# Altium integrated library TI Power Management Battery Management.IntLib: 949 symbols (part 14 of 62)
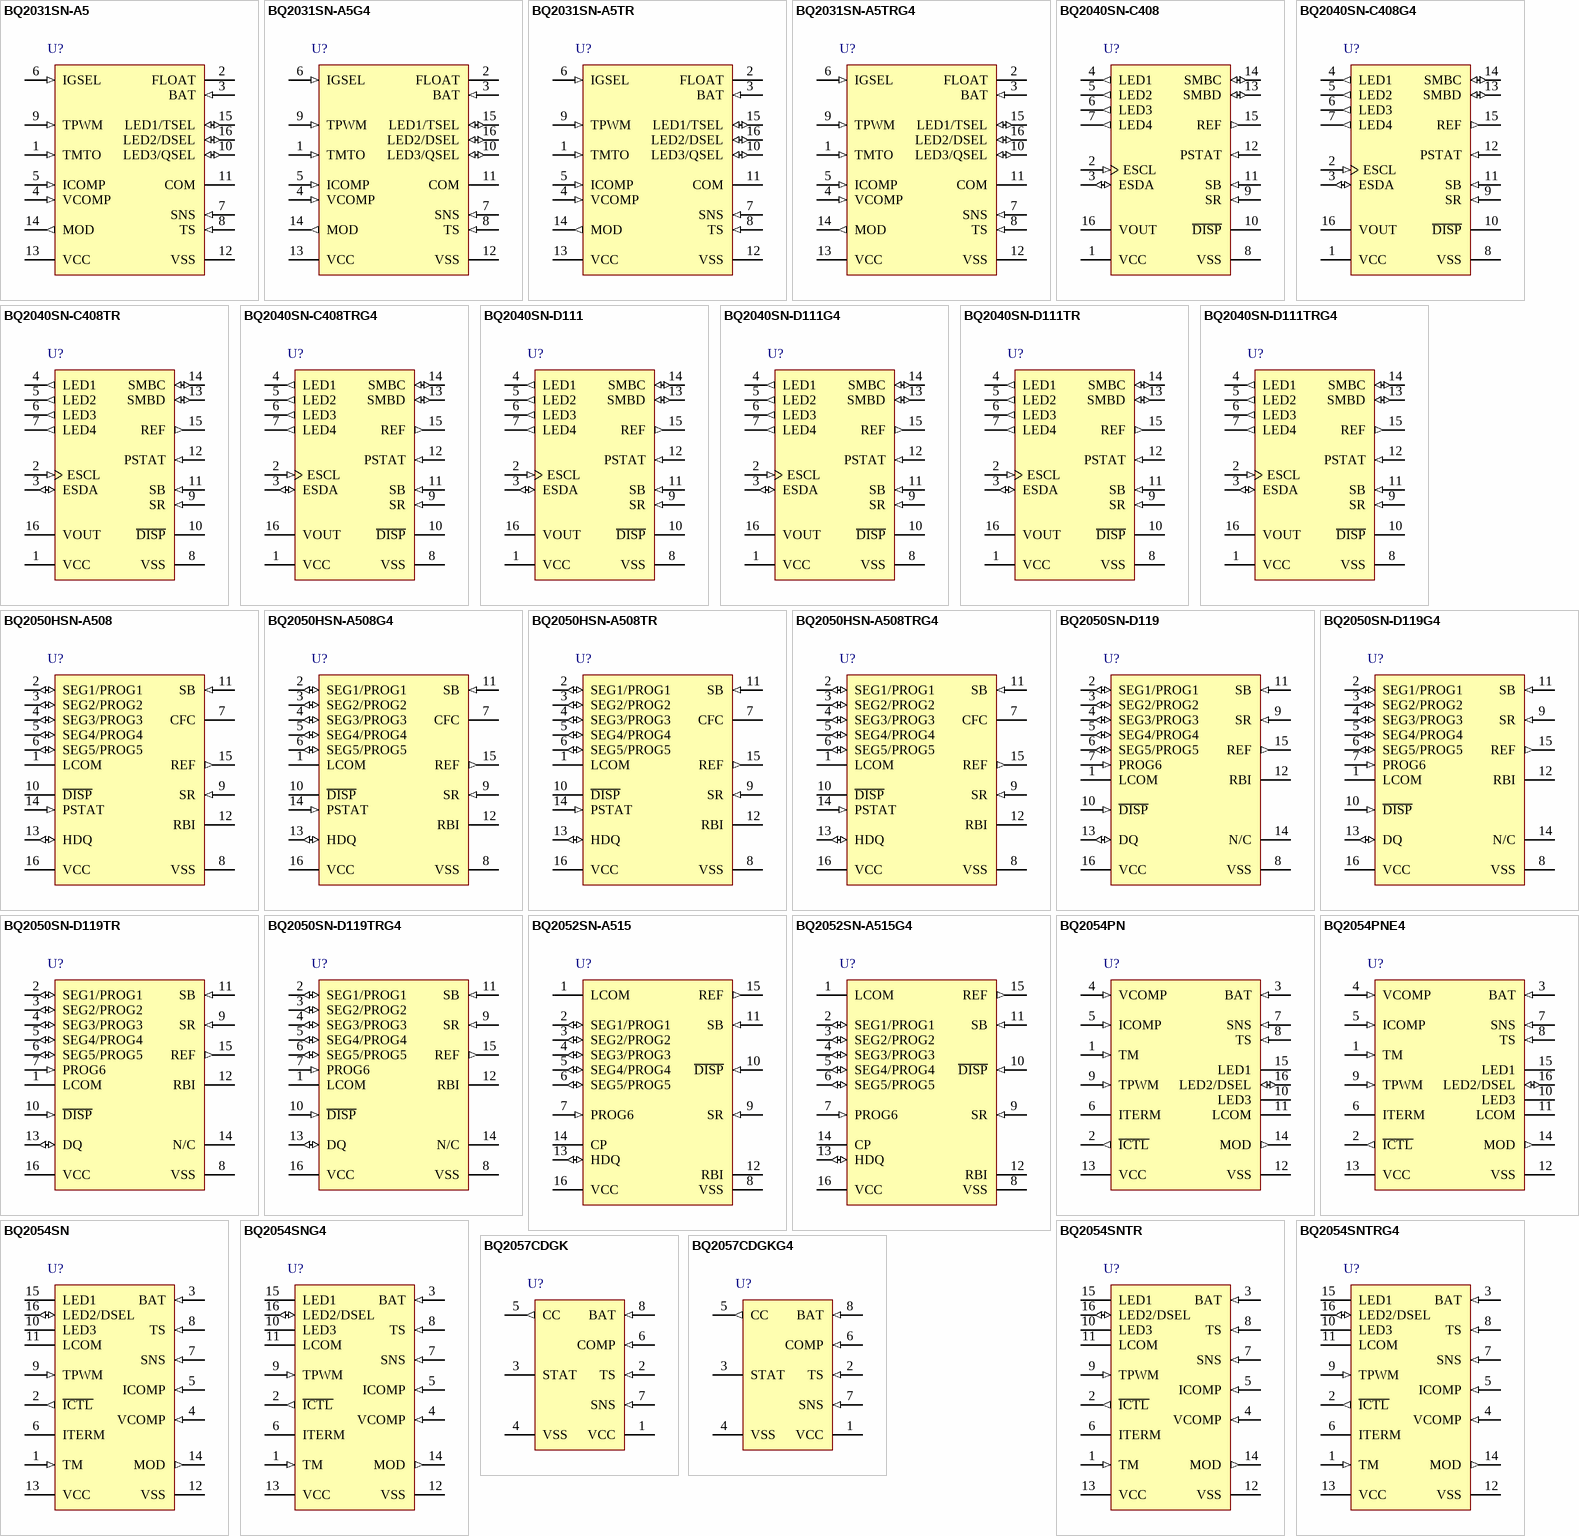
[diagram p47: symbols BQ2031SN-A5 to BQ2057CDGKG4]

## BQ2031SN-A5TR
designator U?
Switch-Mode Lead-Acid Battery Charger with User-Selectable Charge Algorithms, 4.5 V, -20 to 70 degC, 16-pin PDIP (N), Pb-Free (RoHS); PartNumber: BQ2031SN-A5TR; Manufacturer: Texas Instruments; Eco-Plan: Green (RoHS & no Sb/Br); Lead Acid: Y; SubFamily: Battery Charge Management; Vin(Min)(V): 4.5; DatasheetVersion: SLUS156; PackageVersion: revM, Jun-2011; PackageReference: D16; PackageDescription: 16-Pin Plastic Small Outline Integrated Circuit, 9.9 x 3.9 mm, Pitch 1.27 mm Pitch; Supplier 1: Digi-Key; Supplier Part Number 1: 296-30430-2-ND; Supplier 2: Digi-Key; Supplier Part Number 2: 296-30430-1-ND; Supplier 3: Newark; Supplier Part Number 3: 74C7570; Supplier 4: Mouser; Supplier Part Number 4: 595-BQ2031SN-A5TR; Li-Ion: N; Li-Polymer: N; NiCd: N; NiMH: N; Over Voltage Protection: N; Mounting Technology: Surface Mount; Code_JEDEC: MS-012AC; ComponentLink1Description: Datasheet; ComponentLink1URL: http://www.ti.com/general/docs/lit/getliterature.tsp?genericPartNumber=BQ2031&fileType=pdf
footprint D16_N (SOIC, 16-Leads, Body 9.9x3.9mm, Pitch 1.27mm, IPC Medium Density)
footprint D16_L (SOIC, 16-Leads, Body 9.9x3.9mm, Pitch 1.27mm, IPC High Density)
footprint D16_M (SOIC, 16-Leads, Body 9.9x3.9mm, Pitch 1.27mm, IPC Low Density)
pins: 1 TMTO (in) "This input sets the maximum charge time.The resistor and capacitor values are determined using equation 6. Figure 9 shows the resistor/capacitor connection.", 2 FLOAT (oc) "This open-drain output uses an external resistor divider network to control the BAT input voltage threshold (VFLT) for the float charge regulation. See Figure 1.", 3 BAT (in) "BAT is the battery voltage sense input. This potential is generally developed using a highimpedance resistor divider network connected between the positive and the negative terminals of the battery. See Figure 6 and equation (See Datasheet)", 4 VCOMP (in) "This input uses an external C or R-C network for voltage loop stability.", 5 ICOMP (in) "This input uses an external C or R-C network for current loop stability.", 6 IGSEL (in) "This three-state input is used to set IMIN for fast charge termination in the Two-Step Voltage algorithm and for maintenance current regulation in the Two-Step Current algorithm.See Tables 3 and 4.", 7 SNS (in) "Battery current is sensed via the voltage developed on this pin by an external sense resistor,RSNS, connected in series with the low side of the battery. See equation 8.", 8 TS (in) "This input is for an external battery temperature monitoring thermistor or probe. An external resistor divider network sets the lower and upper temperature thresholds.See Figures 7 and 8 and equations 4 and 5.", 9 TPWM (in) "This input uses an external timing capacitor to ground the pulse-width modulation (PWM) frequency. See equation 9.", 10 LED3/QSEL (io) "These charger status output drivers are for the direct drive of the LED display. Display modes are shown in Table 2. These outputs are tri-stated during initialization so that QSEL,TSEL, and DSEL can be read./With QSEL, (See Datasheet)", 11 COM (hiz) "Common output for LED1-3. This output is in a high-impedance state during initialization to read program inputs on TSEL,QSEL, and DSEL.", 12 VSS (power) "Ground", 13 VCC (power) "5.0V, +/- 10% power", 14 MOD (out) "MOD is a pulse-width modulated push/pull output that is used to control the charging current to the battery. MOD switches high to enable current flow and low to inhibit current flow.", 15 LED1/TSEL (io) "These charger status output drivers are for the direct drive of the LED display. Display modes are shown in Table 2. These outputs are tri-stated during initialization so that QSEL,TSEL, and DSEL can be read./With TSEL, (See Datasheet)", 16 LED2/DSEL (io) "These charger status output drivers are for the direct drive of the LED display. Display modes are shown in Table 2. These outputs are tri-stated during initialization so that QSEL,TSEL, and DSEL can be read./This (See Datasheet)"

## BQ2031SN-A5TRG4
designator U?
Switch-Mode Lead-Acid Battery Charger with User-Selectable Charge Algorithms, 4.5 V, -20 to 70 degC, 16-pin PDIP (N), Pb-Free (RoHS); PartNumber: BQ2031SN-A5TRG4; Manufacturer: Texas Instruments; Eco-Plan: Green (RoHS & no Sb/Br); Lead Acid: Y; SubFamily: Battery Charge Management; Vin(Min)(V): 4.5; DatasheetVersion: SLUS156; PackageVersion: revM, Jun-2011; PackageReference: D16; PackageDescription: 16-Pin Plastic Small Outline Integrated Circuit, 9.9 x 3.9 mm, Pitch 1.27 mm Pitch; Supplier 1: Digi-Key; Supplier Part Number 1: BQ2031SN-A5TRG4-ND; Supplier 2: Newark; Supplier Part Number 2: 53K9219; Supplier 3: Mouser; Supplier Part Number 3: 595-BQ2031SN-A5TRG4; Li-Ion: N; Li-Polymer: N; NiCd: N; NiMH: N; Over Voltage Protection: N; Mounting Technology: Surface Mount; Code_JEDEC: MS-012AC; ComponentLink1Description: Datasheet; ComponentLink1URL: http://www.ti.com/general/docs/lit/getliterature.tsp?genericPartNumber=BQ2031&fileType=pdf
footprint D16_N (SOIC, 16-Leads, Body 9.9x3.9mm, Pitch 1.27mm, IPC Medium Density)
footprint D16_L (SOIC, 16-Leads, Body 9.9x3.9mm, Pitch 1.27mm, IPC High Density)
footprint D16_M (SOIC, 16-Leads, Body 9.9x3.9mm, Pitch 1.27mm, IPC Low Density)
pins: 1 TMTO (in) "This input sets the maximum charge time.The resistor and capacitor values are determined using equation 6. Figure 9 shows the resistor/capacitor connection.", 2 FLOAT (oc) "This open-drain output uses an external resistor divider network to control the BAT input voltage threshold (VFLT) for the float charge regulation. See Figure 1.", 3 BAT (in) "BAT is the battery voltage sense input. This potential is generally developed using a highimpedance resistor divider network connected between the positive and the negative terminals of the battery. See Figure 6 and equation (See Datasheet)", 4 VCOMP (in) "This input uses an external C or R-C network for voltage loop stability.", 5 ICOMP (in) "This input uses an external C or R-C network for current loop stability.", 6 IGSEL (in) "This three-state input is used to set IMIN for fast charge termination in the Two-Step Voltage algorithm and for maintenance current regulation in the Two-Step Current algorithm.See Tables 3 and 4.", 7 SNS (in) "Battery current is sensed via the voltage developed on this pin by an external sense resistor,RSNS, connected in series with the low side of the battery. See equation 8.", 8 TS (in) "This input is for an external battery temperature monitoring thermistor or probe. An external resistor divider network sets the lower and upper temperature thresholds.See Figures 7 and 8 and equations 4 and 5.", 9 TPWM (in) "This input uses an external timing capacitor to ground the pulse-width modulation (PWM) frequency. See equation 9.", 10 LED3/QSEL (io) "These charger status output drivers are for the direct drive of the LED display. Display modes are shown in Table 2. These outputs are tri-stated during initialization so that QSEL,TSEL, and DSEL can be read./With QSEL, (See Datasheet)", 11 COM (hiz) "Common output for LED1-3. This output is in a high-impedance state during initialization to read program inputs on TSEL,QSEL, and DSEL.", 12 VSS (power) "Ground", 13 VCC (power) "5.0V, +/- 10% power", 14 MOD (out) "MOD is a pulse-width modulated push/pull output that is used to control the charging current to the battery. MOD switches high to enable current flow and low to inhibit current flow.", 15 LED1/TSEL (io) "These charger status output drivers are for the direct drive of the LED display. Display modes are shown in Table 2. These outputs are tri-stated during initialization so that QSEL,TSEL, and DSEL can be read./With TSEL, (See Datasheet)", 16 LED2/DSEL (io) "These charger status output drivers are for the direct drive of the LED display. Display modes are shown in Table 2. These outputs are tri-stated during initialization so that QSEL,TSEL, and DSEL can be read./This (See Datasheet)"

## BQ2040SN-C408
designator U?
Multi-Chemistry Smart Battery System (SBS) 1.0 Compliant Gas Gauge with 4 LED Drivers, 0 to 70 degC, 16-pin SOIC (D), Green (RoHS & no Sb/Br); PartNumber: BQ2040SN-C408; Manufacturer: Texas Instruments; Lead Acid: Y; Li-Polymer: N; SubFamily: Battery Fuel Gauge; DatasheetVersion: SLUS005; PackageVersion: revM, Jun-2011; PackageReference: D16; PackageDescription: 16-Pin Plastic Small Outline Integrated Circuit, 9.9 x 3.9 mm, Pitch 1.27 mm Pitch; Supplier 1: Digi-Key; Supplier Part Number 1: 296-2223-5-ND; Supplier 2: Newark; Supplier Part Number 2: 74K3706; Supplier 3: Mouser; Supplier Part Number 3: 595-BQ2040SN-C408; Eco-Plan: Green (RoHS & no Sb/Br); Li-Ion: Y; NiCd: Y; NiMH: Y; Over Voltage Protection: N; Mounting Technology: Surface Mount; Code_JEDEC: MS-012AC; ComponentLink1Description: Datasheet; ComponentLink1URL: http://www.ti.com/general/docs/lit/getliterature.tsp?genericPartNumber=BQ2040&fileType=pdf
footprint D16_N (SOIC, 16-Leads, Body 9.9x3.9mm, Pitch 1.27mm, IPC Medium Density)
footprint D16_L (SOIC, 16-Leads, Body 9.9x3.9mm, Pitch 1.27mm, IPC High Density)
footprint D16_M (SOIC, 16-Leads, Body 9.9x3.9mm, Pitch 1.27mm, IPC Low Density)
pins: 1 VCC (power) "Supply voltage input", 2 ESCL (in) "Output used to clock the data transfer between the bq2040 and the external nonvolatile configuration memory.", 3 ESDA (io) "Bidirectional pin used to transfer address and data to and from the bq2040 and the external nonvolitile configuration memory.", 4 LED1 (out) "Each output may drive an external LED.", 5 LED2 (out) "Each output may drive an external LED.", 6 LED3 (out) "Each output may drive an external LED.", 7 LED4 (out) "Each output may drive an external LED.", 8 VSS (power) "Ground", 9 SR (in) "The voltage drop (VSR) across pins SR and VSS is monitored and integrated over time to interpret charge and discharge activity.The SR input is connected to the sense resistor and the negative terminal of the battery. VSR < (See Datasheet)", 10 ~{DISP} "D\I\S\P\ high disables the LED display.D\I\S\P\ floating allows the LED display to be active during charge if the rate is greater than 100mA.D\I\S\P\ low activates the display for 4 seconds.", 11 SB (in) "Monitors the pack voltage through a highimpedance resistor divider network. The pack voltage is reported in the SBD register function Voltage (0x09) and is monitored for end-of-discharge voltage and charging voltage (See Datasheet)", 12 PSTAT (in) "Provides overvoltage status from the Li-Ion protector circuit and can initiate a charge suspend request.", 13 SMBD (io) "Open-drain bidirectional pin used to transfer address and data to and from the bq2040.", 14 SMBC (io) "Open-drain bidirectional pin used to clock the data transfer to and from the bq2040.", 15 REF (out) "REF provides a reference output for an optional FET-based micro-regulator.", 16 VOUT (power) "Supplies power to the external EEPROM configuration memory."

## BQ2040SN-C408G4
designator U?
Multi-Chemistry Smart Battery System (SBS) 1.0 Compliant Gas Gauge with 4 LED Drivers, 0 to 70 degC, 16-pin SOIC (D), Green (RoHS & no Sb/Br); PartNumber: BQ2040SN-C408G4; Manufacturer: Texas Instruments; Lead Acid: Y; Li-Polymer: N; SubFamily: Battery Fuel Gauge; DatasheetVersion: SLUS005; PackageVersion: revM, Jun-2011; PackageReference: D16; PackageDescription: 16-Pin Plastic Small Outline Integrated Circuit, 9.9 x 3.9 mm, Pitch 1.27 mm Pitch; Supplier 1: Digi-Key; Supplier Part Number 1: BQ2040SN-C408G4-ND; Supplier 2: Newark; Supplier Part Number 2: 21M9442; Supplier 3: Mouser; Supplier Part Number 3: 595-BQ2040SN-C408G4; Eco-Plan: Green (RoHS & no Sb/Br); Li-Ion: Y; NiCd: Y; NiMH: Y; Over Voltage Protection: N; Mounting Technology: Surface Mount; Code_JEDEC: MS-012AC; ComponentLink1Description: Datasheet; ComponentLink1URL: http://www.ti.com/general/docs/lit/getliterature.tsp?genericPartNumber=BQ2040&fileType=pdf
footprint D16_N (SOIC, 16-Leads, Body 9.9x3.9mm, Pitch 1.27mm, IPC Medium Density)
footprint D16_L (SOIC, 16-Leads, Body 9.9x3.9mm, Pitch 1.27mm, IPC High Density)
footprint D16_M (SOIC, 16-Leads, Body 9.9x3.9mm, Pitch 1.27mm, IPC Low Density)
pins: 1 VCC (power) "Supply voltage input", 2 ESCL (in) "Output used to clock the data transfer between the bq2040 and the external nonvolatile configuration memory.", 3 ESDA (io) "Bidirectional pin used to transfer address and data to and from the bq2040 and the external nonvolitile configuration memory.", 4 LED1 (out) "Each output may drive an external LED.", 5 LED2 (out) "Each output may drive an external LED.", 6 LED3 (out) "Each output may drive an external LED.", 7 LED4 (out) "Each output may drive an external LED.", 8 VSS (power) "Ground", 9 SR (in) "The voltage drop (VSR) across pins SR and VSS is monitored and integrated over time to interpret charge and discharge activity.The SR input is connected to the sense resistor and the negative terminal of the battery. VSR < (See Datasheet)", 10 ~{DISP} "D\I\S\P\ high disables the LED display.D\I\S\P\ floating allows the LED display to be active during charge if the rate is greater than 100mA.D\I\S\P\ low activates the display for 4 seconds.", 11 SB (in) "Monitors the pack voltage through a highimpedance resistor divider network. The pack voltage is reported in the SBD register function Voltage (0x09) and is monitored for end-of-discharge voltage and charging voltage (See Datasheet)", 12 PSTAT (in) "Provides overvoltage status from the Li-Ion protector circuit and can initiate a charge suspend request.", 13 SMBD (io) "Open-drain bidirectional pin used to transfer address and data to and from the bq2040.", 14 SMBC (io) "Open-drain bidirectional pin used to clock the data transfer to and from the bq2040.", 15 REF (out) "REF provides a reference output for an optional FET-based micro-regulator.", 16 VOUT (power) "Supplies power to the external EEPROM configuration memory."

## BQ2040SN-C408TR
designator U?
Multi-Chemistry Smart Battery System (SBS) 1.0 Compliant Gas Gauge with 4 LED Drivers, 0 to 70 degC, 16-pin SOIC (D), Green (RoHS & no Sb/Br); PartNumber: BQ2040SN-C408TR; Manufacturer: Texas Instruments; Lead Acid: Y; Li-Polymer: N; SubFamily: Battery Fuel Gauge; DatasheetVersion: SLUS005; PackageVersion: revM, Jun-2011; PackageReference: D16; PackageDescription: 16-Pin Plastic Small Outline Integrated Circuit, 9.9 x 3.9 mm, Pitch 1.27 mm Pitch; Supplier 1: Digi-Key; Supplier Part Number 1: BQ2040SN-C408TR-ND; Supplier 2: Mouser; Supplier Part Number 2: 595-BQ2040SN-C408TR; Eco-Plan: Green (RoHS & no Sb/Br); Li-Ion: Y; NiCd: Y; NiMH: Y; Over Voltage Protection: N; Mounting Technology: Surface Mount; Code_JEDEC: MS-012AC; ComponentLink1Description: Datasheet; ComponentLink1URL: http://www.ti.com/general/docs/lit/getliterature.tsp?genericPartNumber=BQ2040&fileType=pdf
footprint D16_N (SOIC, 16-Leads, Body 9.9x3.9mm, Pitch 1.27mm, IPC Medium Density)
footprint D16_L (SOIC, 16-Leads, Body 9.9x3.9mm, Pitch 1.27mm, IPC High Density)
footprint D16_M (SOIC, 16-Leads, Body 9.9x3.9mm, Pitch 1.27mm, IPC Low Density)
pins: 1 VCC (power) "Supply voltage input", 2 ESCL (in) "Output used to clock the data transfer between the bq2040 and the external nonvolatile configuration memory.", 3 ESDA (io) "Bidirectional pin used to transfer address and data to and from the bq2040 and the external nonvolitile configuration memory.", 4 LED1 (out) "Each output may drive an external LED.", 5 LED2 (out) "Each output may drive an external LED.", 6 LED3 (out) "Each output may drive an external LED.", 7 LED4 (out) "Each output may drive an external LED.", 8 VSS (power) "Ground", 9 SR (in) "The voltage drop (VSR) across pins SR and VSS is monitored and integrated over time to interpret charge and discharge activity.The SR input is connected to the sense resistor and the negative terminal of the battery. VSR < (See Datasheet)", 10 ~{DISP} "D\I\S\P\ high disables the LED display.D\I\S\P\ floating allows the LED display to be active during charge if the rate is greater than 100mA.D\I\S\P\ low activates the display for 4 seconds.", 11 SB (in) "Monitors the pack voltage through a highimpedance resistor divider network. The pack voltage is reported in the SBD register function Voltage (0x09) and is monitored for end-of-discharge voltage and charging voltage (See Datasheet)", 12 PSTAT (in) "Provides overvoltage status from the Li-Ion protector circuit and can initiate a charge suspend request.", 13 SMBD (io) "Open-drain bidirectional pin used to transfer address and data to and from the bq2040.", 14 SMBC (io) "Open-drain bidirectional pin used to clock the data transfer to and from the bq2040.", 15 REF (out) "REF provides a reference output for an optional FET-based micro-regulator.", 16 VOUT (power) "Supplies power to the external EEPROM configuration memory."

## BQ2040SN-C408TRG4
designator U?
Multi-Chemistry Smart Battery System (SBS) 1.0 Compliant Gas Gauge with 4 LED Drivers, 0 to 70 degC, 16-pin SOIC (D), Green (RoHS & no Sb/Br); PartNumber: BQ2040SN-C408TRG4; Manufacturer: Texas Instruments; Lead Acid: Y; Li-Polymer: N; SubFamily: Battery Fuel Gauge; DatasheetVersion: SLUS005; PackageVersion: revM, Jun-2011; PackageReference: D16; PackageDescription: 16-Pin Plastic Small Outline Integrated Circuit, 9.9 x 3.9 mm, Pitch 1.27 mm Pitch; Supplier 1: Digi-Key; Supplier Part Number 1: BQ2040SN-C408TRG4-ND; Supplier 2: Newark; Supplier Part Number 2: 21M9443; Supplier 3: Mouser; Supplier Part Number 3: 595-BQ2040SN408TRG4; Eco-Plan: Green (RoHS & no Sb/Br); Li-Ion: Y; NiCd: Y; NiMH: Y; Over Voltage Protection: N; Mounting Technology: Surface Mount; Code_JEDEC: MS-012AC; ComponentLink1Description: Datasheet; ComponentLink1URL: http://www.ti.com/general/docs/lit/getliterature.tsp?genericPartNumber=BQ2040&fileType=pdf
footprint D16_N (SOIC, 16-Leads, Body 9.9x3.9mm, Pitch 1.27mm, IPC Medium Density)
footprint D16_L (SOIC, 16-Leads, Body 9.9x3.9mm, Pitch 1.27mm, IPC High Density)
footprint D16_M (SOIC, 16-Leads, Body 9.9x3.9mm, Pitch 1.27mm, IPC Low Density)
pins: 1 VCC (power) "Supply voltage input", 2 ESCL (in) "Output used to clock the data transfer between the bq2040 and the external nonvolatile configuration memory.", 3 ESDA (io) "Bidirectional pin used to transfer address and data to and from the bq2040 and the external nonvolitile configuration memory.", 4 LED1 (out) "Each output may drive an external LED.", 5 LED2 (out) "Each output may drive an external LED.", 6 LED3 (out) "Each output may drive an external LED.", 7 LED4 (out) "Each output may drive an external LED.", 8 VSS (power) "Ground", 9 SR (in) "The voltage drop (VSR) across pins SR and VSS is monitored and integrated over time to interpret charge and discharge activity.The SR input is connected to the sense resistor and the negative terminal of the battery. VSR < (See Datasheet)", 10 ~{DISP} "D\I\S\P\ high disables the LED display.D\I\S\P\ floating allows the LED display to be active during charge if the rate is greater than 100mA.D\I\S\P\ low activates the display for 4 seconds.", 11 SB (in) "Monitors the pack voltage through a highimpedance resistor divider network. The pack voltage is reported in the SBD register function Voltage (0x09) and is monitored for end-of-discharge voltage and charging voltage (See Datasheet)", 12 PSTAT (in) "Provides overvoltage status from the Li-Ion protector circuit and can initiate a charge suspend request.", 13 SMBD (io) "Open-drain bidirectional pin used to transfer address and data to and from the bq2040.", 14 SMBC (io) "Open-drain bidirectional pin used to clock the data transfer to and from the bq2040.", 15 REF (out) "REF provides a reference output for an optional FET-based micro-regulator.", 16 VOUT (power) "Supplies power to the external EEPROM configuration memory."

## BQ2040SN-D111
designator U?
Multi-Chemistry Smart Battery System (SBS) 1.0 Compliant Gas Gauge with 4 LED Drivers, 0 to 70 degC, 16-pin SOIC (D), Green (RoHS & no Sb/Br); PartNumber: BQ2040SN-D111; Manufacturer: Texas Instruments; Lead Acid: Y; Li-Polymer: N; SubFamily: Battery Fuel Gauge; DatasheetVersion: SLUS005; PackageVersion: revM, Jun-2011; PackageReference: D16; PackageDescription: 16-Pin Plastic Small Outline Integrated Circuit, 9.9 x 3.9 mm, Pitch 1.27 mm Pitch; Supplier 1: Digi-Key; Supplier Part Number 1: 296-13773-5-ND; Supplier 2: Newark; Supplier Part Number 2: 88K1041; Supplier 3: Mouser; Supplier Part Number 3: 595-BQ2040-D111; Eco-Plan: Green (RoHS & no Sb/Br); Li-Ion: Y; NiCd: Y; NiMH: Y; Over Voltage Protection: N; Mounting Technology: Surface Mount; Code_JEDEC: MS-012AC; ComponentLink1Description: Datasheet; ComponentLink1URL: http://www.ti.com/general/docs/lit/getliterature.tsp?genericPartNumber=BQ2040&fileType=pdf
footprint D16_N (SOIC, 16-Leads, Body 9.9x3.9mm, Pitch 1.27mm, IPC Medium Density)
footprint D16_L (SOIC, 16-Leads, Body 9.9x3.9mm, Pitch 1.27mm, IPC High Density)
footprint D16_M (SOIC, 16-Leads, Body 9.9x3.9mm, Pitch 1.27mm, IPC Low Density)
pins: 1 VCC (power) "Supply voltage input", 2 ESCL (in) "Output used to clock the data transfer between the bq2040 and the external nonvolatile configuration memory.", 3 ESDA (io) "Bidirectional pin used to transfer address and data to and from the bq2040 and the external nonvolitile configuration memory.", 4 LED1 (out) "Each output may drive an external LED.", 5 LED2 (out) "Each output may drive an external LED.", 6 LED3 (out) "Each output may drive an external LED.", 7 LED4 (out) "Each output may drive an external LED.", 8 VSS (power) "Ground", 9 SR (in) "The voltage drop (VSR) across pins SR and VSS is monitored and integrated over time to interpret charge and discharge activity.The SR input is connected to the sense resistor and the negative terminal of the battery. VSR < (See Datasheet)", 10 ~{DISP} "D\I\S\P\ high disables the LED display.D\I\S\P\ floating allows the LED display to be active during charge if the rate is greater than 100mA.D\I\S\P\ low activates the display for 4 seconds.", 11 SB (in) "Monitors the pack voltage through a highimpedance resistor divider network. The pack voltage is reported in the SBD register function Voltage (0x09) and is monitored for end-of-discharge voltage and charging voltage (See Datasheet)", 12 PSTAT (in) "Provides overvoltage status from the Li-Ion protector circuit and can initiate a charge suspend request.", 13 SMBD (io) "Open-drain bidirectional pin used to transfer address and data to and from the bq2040.", 14 SMBC (io) "Open-drain bidirectional pin used to clock the data transfer to and from the bq2040.", 15 REF (out) "REF provides a reference output for an optional FET-based micro-regulator.", 16 VOUT (power) "Supplies power to the external EEPROM configuration memory."

## BQ2040SN-D111G4
designator U?
Multi-Chemistry Smart Battery System (SBS) 1.0 Compliant Gas Gauge with 4 LED Drivers, 0 to 70 degC, 16-pin SOIC (D), Green (RoHS & no Sb/Br); PartNumber: BQ2040SN-D111G4; Manufacturer: Texas Instruments; Lead Acid: Y; Li-Polymer: N; SubFamily: Battery Fuel Gauge; DatasheetVersion: SLUS005; PackageVersion: revM, Jun-2011; PackageReference: D16; PackageDescription: 16-Pin Plastic Small Outline Integrated Circuit, 9.9 x 3.9 mm, Pitch 1.27 mm Pitch; Supplier 1: Digi-Key; Supplier Part Number 1: BQ2040SN-D111G4-ND; Supplier 2: Newark; Supplier Part Number 2: 21M9444; Supplier 3: Mouser; Supplier Part Number 3: 595-BQ2040SN-D111G4; Eco-Plan: Green (RoHS & no Sb/Br); Li-Ion: Y; NiCd: Y; NiMH: Y; Over Voltage Protection: N; Mounting Technology: Surface Mount; Code_JEDEC: MS-012AC; ComponentLink1Description: Datasheet; ComponentLink1URL: http://www.ti.com/general/docs/lit/getliterature.tsp?genericPartNumber=BQ2040&fileType=pdf
footprint D16_N (SOIC, 16-Leads, Body 9.9x3.9mm, Pitch 1.27mm, IPC Medium Density)
footprint D16_L (SOIC, 16-Leads, Body 9.9x3.9mm, Pitch 1.27mm, IPC High Density)
footprint D16_M (SOIC, 16-Leads, Body 9.9x3.9mm, Pitch 1.27mm, IPC Low Density)
pins: 1 VCC (power) "Supply voltage input", 2 ESCL (in) "Output used to clock the data transfer between the bq2040 and the external nonvolatile configuration memory.", 3 ESDA (io) "Bidirectional pin used to transfer address and data to and from the bq2040 and the external nonvolitile configuration memory.", 4 LED1 (out) "Each output may drive an external LED.", 5 LED2 (out) "Each output may drive an external LED.", 6 LED3 (out) "Each output may drive an external LED.", 7 LED4 (out) "Each output may drive an external LED.", 8 VSS (power) "Ground", 9 SR (in) "The voltage drop (VSR) across pins SR and VSS is monitored and integrated over time to interpret charge and discharge activity.The SR input is connected to the sense resistor and the negative terminal of the battery. VSR < (See Datasheet)", 10 ~{DISP} "D\I\S\P\ high disables the LED display.D\I\S\P\ floating allows the LED display to be active during charge if the rate is greater than 100mA.D\I\S\P\ low activates the display for 4 seconds.", 11 SB (in) "Monitors the pack voltage through a highimpedance resistor divider network. The pack voltage is reported in the SBD register function Voltage (0x09) and is monitored for end-of-discharge voltage and charging voltage (See Datasheet)", 12 PSTAT (in) "Provides overvoltage status from the Li-Ion protector circuit and can initiate a charge suspend request.", 13 SMBD (io) "Open-drain bidirectional pin used to transfer address and data to and from the bq2040.", 14 SMBC (io) "Open-drain bidirectional pin used to clock the data transfer to and from the bq2040.", 15 REF (out) "REF provides a reference output for an optional FET-based micro-regulator.", 16 VOUT (power) "Supplies power to the external EEPROM configuration memory."

## BQ2040SN-D111TR
designator U?
Multi-Chemistry Smart Battery System (SBS) 1.0 Compliant Gas Gauge with 4 LED Drivers, 0 to 70 degC, 16-pin SOIC (D), Green (RoHS & no Sb/Br); PartNumber: BQ2040SN-D111TR; Manufacturer: Texas Instruments; Lead Acid: Y; Li-Polymer: N; SubFamily: Battery Fuel Gauge; DatasheetVersion: SLUS005; PackageVersion: revM, Jun-2011; PackageReference: D16; PackageDescription: 16-Pin Plastic Small Outline Integrated Circuit, 9.9 x 3.9 mm, Pitch 1.27 mm Pitch; Supplier 1: Digi-Key; Supplier Part Number 1: BQ2040SN-D111TR-ND; Supplier 2: Newark; Supplier Part Number 2: 74C7574; Supplier 3: Mouser; Supplier Part Number 3: 595-BQ2040SN-D111TR; Eco-Plan: Green (RoHS & no Sb/Br); Li-Ion: Y; NiCd: Y; NiMH: Y; Over Voltage Protection: N; Mounting Technology: Surface Mount; Code_JEDEC: MS-012AC; ComponentLink1Description: Datasheet; ComponentLink1URL: http://www.ti.com/general/docs/lit/getliterature.tsp?genericPartNumber=BQ2040&fileType=pdf
footprint D16_N (SOIC, 16-Leads, Body 9.9x3.9mm, Pitch 1.27mm, IPC Medium Density)
footprint D16_L (SOIC, 16-Leads, Body 9.9x3.9mm, Pitch 1.27mm, IPC High Density)
footprint D16_M (SOIC, 16-Leads, Body 9.9x3.9mm, Pitch 1.27mm, IPC Low Density)
pins: 1 VCC (power) "Supply voltage input", 2 ESCL (in) "Output used to clock the data transfer between the bq2040 and the external nonvolatile configuration memory.", 3 ESDA (io) "Bidirectional pin used to transfer address and data to and from the bq2040 and the external nonvolitile configuration memory.", 4 LED1 (out) "Each output may drive an external LED.", 5 LED2 (out) "Each output may drive an external LED.", 6 LED3 (out) "Each output may drive an external LED.", 7 LED4 (out) "Each output may drive an external LED.", 8 VSS (power) "Ground", 9 SR (in) "The voltage drop (VSR) across pins SR and VSS is monitored and integrated over time to interpret charge and discharge activity.The SR input is connected to the sense resistor and the negative terminal of the battery. VSR < (See Datasheet)", 10 ~{DISP} "D\I\S\P\ high disables the LED display.D\I\S\P\ floating allows the LED display to be active during charge if the rate is greater than 100mA.D\I\S\P\ low activates the display for 4 seconds.", 11 SB (in) "Monitors the pack voltage through a highimpedance resistor divider network. The pack voltage is reported in the SBD register function Voltage (0x09) and is monitored for end-of-discharge voltage and charging voltage (See Datasheet)", 12 PSTAT (in) "Provides overvoltage status from the Li-Ion protector circuit and can initiate a charge suspend request.", 13 SMBD (io) "Open-drain bidirectional pin used to transfer address and data to and from the bq2040.", 14 SMBC (io) "Open-drain bidirectional pin used to clock the data transfer to and from the bq2040.", 15 REF (out) "REF provides a reference output for an optional FET-based micro-regulator.", 16 VOUT (power) "Supplies power to the external EEPROM configuration memory."

## BQ2040SN-D111TRG4
designator U?
Multi-Chemistry Smart Battery System (SBS) 1.0 Compliant Gas Gauge with 4 LED Drivers, 0 to 70 degC, 16-pin SOIC (D), Green (RoHS & no Sb/Br); PartNumber: BQ2040SN-D111TRG4; Manufacturer: Texas Instruments; Lead Acid: Y; Li-Polymer: N; SubFamily: Battery Fuel Gauge; DatasheetVersion: SLUS005; PackageVersion: revM, Jun-2011; PackageReference: D16; PackageDescription: 16-Pin Plastic Small Outline Integrated Circuit, 9.9 x 3.9 mm, Pitch 1.27 mm Pitch; Supplier 1: Digi-Key; Supplier Part Number 1: BQ2040SN-D111TRG4-ND; Supplier 2: Newark; Supplier Part Number 2: 24K4376; Supplier 3: Mouser; Supplier Part Number 3: 595-BQ2040SND111TRG4; Eco-Plan: Green (RoHS & no Sb/Br); Li-Ion: Y; NiCd: Y; NiMH: Y; Over Voltage Protection: N; Mounting Technology: Surface Mount; Code_JEDEC: MS-012AC; ComponentLink1Description: Datasheet; ComponentLink1URL: http://www.ti.com/general/docs/lit/getliterature.tsp?genericPartNumber=BQ2040&fileType=pdf
footprint D16_N (SOIC, 16-Leads, Body 9.9x3.9mm, Pitch 1.27mm, IPC Medium Density)
footprint D16_L (SOIC, 16-Leads, Body 9.9x3.9mm, Pitch 1.27mm, IPC High Density)
footprint D16_M (SOIC, 16-Leads, Body 9.9x3.9mm, Pitch 1.27mm, IPC Low Density)
pins: 1 VCC (power) "Supply voltage input", 2 ESCL (in) "Output used to clock the data transfer between the bq2040 and the external nonvolatile configuration memory.", 3 ESDA (io) "Bidirectional pin used to transfer address and data to and from the bq2040 and the external nonvolitile configuration memory.", 4 LED1 (out) "Each output may drive an external LED.", 5 LED2 (out) "Each output may drive an external LED.", 6 LED3 (out) "Each output may drive an external LED.", 7 LED4 (out) "Each output may drive an external LED.", 8 VSS (power) "Ground", 9 SR (in) "The voltage drop (VSR) across pins SR and VSS is monitored and integrated over time to interpret charge and discharge activity.The SR input is connected to the sense resistor and the negative terminal of the battery. VSR < (See Datasheet)", 10 ~{DISP} "D\I\S\P\ high disables the LED display.D\I\S\P\ floating allows the LED display to be active during charge if the rate is greater than 100mA.D\I\S\P\ low activates the display for 4 seconds.", 11 SB (in) "Monitors the pack voltage through a highimpedance resistor divider network. The pack voltage is reported in the SBD register function Voltage (0x09) and is monitored for end-of-discharge voltage and charging voltage (See Datasheet)", 12 PSTAT (in) "Provides overvoltage status from the Li-Ion protector circuit and can initiate a charge suspend request.", 13 SMBD (io) "Open-drain bidirectional pin used to transfer address and data to and from the bq2040.", 14 SMBC (io) "Open-drain bidirectional pin used to clock the data transfer to and from the bq2040.", 15 REF (out) "REF provides a reference output for an optional FET-based micro-regulator.", 16 VOUT (power) "Supplies power to the external EEPROM configuration memory."

## BQ2050HSN-A508
designator U?
Li-Ion Gas Gauge with High-Speed 1-Wire (HDQ) Interface and 5 LED Drivers, 0 to 70 degC, 16-pin SOIC (D), Green (RoHS & no Sb/Br); PartNumber: BQ2050HSN-A508; Manufacturer: Texas Instruments; Lead Acid: N; Li-Ion: Y; SubFamily: Battery Fuel Gauge; DatasheetVersion: SLUS150; PackageVersion: revM, Jun-2011; PackageReference: D16; PackageDescription: 16-Pin Plastic Small Outline Integrated Circuit, 9.9 x 3.9 mm, Pitch 1.27 mm Pitch; Supplier 1: Digi-Key; Supplier Part Number 1: 296-9353-5-ND; Supplier 2: Newark; Supplier Part Number 2: 74C7576; Supplier 3: Mouser; Supplier Part Number 3: 595-BQ2050HSN-A508; Eco-Plan: Green (RoHS & no Sb/Br); Li-Polymer: N; NiCd: N; NiMH: N; Over Voltage Protection: N; Mounting Technology: Surface Mount; Code_JEDEC: MS-012AC; ComponentLink1Description: Datasheet; ComponentLink1URL: http://www.ti.com/general/docs/lit/getliterature.tsp?genericPartNumber=BQ2050H&fileType=pdf
footprint D16_N (SOIC, 16-Leads, Body 9.9x3.9mm, Pitch 1.27mm, IPC Medium Density)
footprint D16_L (SOIC, 16-Leads, Body 9.9x3.9mm, Pitch 1.27mm, IPC High Density)
footprint D16_M (SOIC, 16-Leads, Body 9.9x3.9mm, Pitch 1.27mm, IPC Low Density)
pins: 1 LCOM (hiz) "This open-drain output switches VCC to source current for the LEDs. The switch is off during initialization to allow reading of the soft pull-up or pull-down program resistors.LCOM is also high impedance when the display is (See Datasheet)", 2 SEG1/PROG1 (io) "Each output may activate an LED to sink the current sourced from LCOM./These three-level input pins define the programmed full count (PFC) thresholds described in Table 2.", 3 SEG2/PROG2 (io) "Each output may activate an LED to sink the current sourced from LCOM./These three-level input pins define the programmed full count (PFC) thresholds described in Table 2.", 4 SEG3/PROG3 (io) "Each output may activate an LED to sink the current sourced from LCOM./These three-level input pins define the scale factor described in Table 2.", 5 SEG4/PROG4 (io) "Each output may activate an LED to sink the current sourced from LCOM./These three-level input pins define the scale factor described in Table 2.", 6 SEG5/PROG5 (io) "Each output may activate an LED to sink the current sourced from LCOM./This three-level input pin defines the selfdischarge and battery compensation factors as shown in Table 1.", 7 CFC "This pin can be used as an additional control to the charge FET of the Li-Ion pack protection circuitry.", 8 VSS (power) "Ground", 9 SR (in) "The voltage drop (VSR) across the sense resistor RS is monitored and integrated over time to interpret charge and discharge activity.The SR input is tied between the negative terminal of the battery and the sense resistor.(See Datasheet)", 10 ~{DISP} "D\I\S\P\ high disables the LED display.D\I\S\P\ tied to VCC allows PROGX to connect directly to VCC or VSS instead of through a pull-up or pull-down resistor. DISP floating allows the LED display to be active during charge.(See Datasheet)", 11 SB (in) "This input monitors the battery cell voltage potential through a high-impedance resistive divider network for end-of-discharge voltage (EDV) thresholds and battery-removed detection.", 12 RBI (power) "This pin is used to provide backup potential to the bq2050 registers during periods when VCC =< 3V. A storage capacitor or a battery can be connected to RBI.", 13 HDQ (io) "This is the open-drain bidirectional communications port.", 14 PSTAT (in) "This input provides overvoltage status from the Li-Ion protector circuit. It should connect to VSS when not used.", 15 REF (out) "REF provides a voltage reference output for an optional micro-regulator.", 16 VCC (power) "Supply voltage input"

## BQ2050HSN-A508G4
designator U?
Li-Ion Gas Gauge with High-Speed 1-Wire (HDQ) Interface and 5 LED Drivers, 0 to 70 degC, 16-pin SOIC (D), Green (RoHS & no Sb/Br); PartNumber: BQ2050HSN-A508G4; Manufacturer: Texas Instruments; Lead Acid: N; Li-Ion: Y; SubFamily: Battery Fuel Gauge; DatasheetVersion: SLUS150; PackageVersion: revM, Jun-2011; PackageReference: D16; PackageDescription: 16-Pin Plastic Small Outline Integrated Circuit, 9.9 x 3.9 mm, Pitch 1.27 mm Pitch; Supplier 1: Digi-Key; Supplier Part Number 1: BQ2050HSN-A508G4-ND; Supplier 2: Farnell; Supplier Part Number 2: 1206832; Supplier 3: Newark; Supplier Part Number 3: 62M9462; Supplier 4: Newark; Supplier Part Number 4: 58K5573; Supplier 5: Mouser; Supplier Part Number 5: 595-BQ2050HSN-A508G4; Eco-Plan: Green (RoHS & no Sb/Br); Li-Polymer: N; NiCd: N; NiMH: N; Over Voltage Protection: N; Mounting Technology: Surface Mount; Code_JEDEC: MS-012AC; ComponentLink1Description: Datasheet; ComponentLink1URL: http://www.ti.com/general/docs/lit/getliterature.tsp?genericPartNumber=BQ2050H&fileType=pdf
footprint D16_N (SOIC, 16-Leads, Body 9.9x3.9mm, Pitch 1.27mm, IPC Medium Density)
footprint D16_L (SOIC, 16-Leads, Body 9.9x3.9mm, Pitch 1.27mm, IPC High Density)
footprint D16_M (SOIC, 16-Leads, Body 9.9x3.9mm, Pitch 1.27mm, IPC Low Density)
pins: 1 LCOM (hiz) "This open-drain output switches VCC to source current for the LEDs. The switch is off during initialization to allow reading of the soft pull-up or pull-down program resistors.LCOM is also high impedance when the display is (See Datasheet)", 2 SEG1/PROG1 (io) "Each output may activate an LED to sink the current sourced from LCOM./These three-level input pins define the programmed full count (PFC) thresholds described in Table 2.", 3 SEG2/PROG2 (io) "Each output may activate an LED to sink the current sourced from LCOM./These three-level input pins define the programmed full count (PFC) thresholds described in Table 2.", 4 SEG3/PROG3 (io) "Each output may activate an LED to sink the current sourced from LCOM./These three-level input pins define the scale factor described in Table 2.", 5 SEG4/PROG4 (io) "Each output may activate an LED to sink the current sourced from LCOM./These three-level input pins define the scale factor described in Table 2.", 6 SEG5/PROG5 (io) "Each output may activate an LED to sink the current sourced from LCOM./This three-level input pin defines the selfdischarge and battery compensation factors as shown in Table 1.", 7 CFC "This pin can be used as an additional control to the charge FET of the Li-Ion pack protection circuitry.", 8 VSS (power) "Ground", 9 SR (in) "The voltage drop (VSR) across the sense resistor RS is monitored and integrated over time to interpret charge and discharge activity.The SR input is tied between the negative terminal of the battery and the sense resistor.(See Datasheet)", 10 ~{DISP} "D\I\S\P\ high disables the LED display.D\I\S\P\ tied to VCC allows PROGX to connect directly to VCC or VSS instead of through a pull-up or pull-down resistor. DISP floating allows the LED display to be active during charge.(See Datasheet)", 11 SB (in) "This input monitors the battery cell voltage potential through a high-impedance resistive divider network for end-of-discharge voltage (EDV) thresholds and battery-removed detection.", 12 RBI (power) "This pin is used to provide backup potential to the bq2050 registers during periods when VCC =< 3V. A storage capacitor or a battery can be connected to RBI.", 13 HDQ (io) "This is the open-drain bidirectional communications port.", 14 PSTAT (in) "This input provides overvoltage status from the Li-Ion protector circuit. It should connect to VSS when not used.", 15 REF (out) "REF provides a voltage reference output for an optional micro-regulator.", 16 VCC (power) "Supply voltage input"

## BQ2050HSN-A508TR
designator U?
Li-Ion Gas Gauge with High-Speed 1-Wire (HDQ) Interface and 5 LED Drivers, 0 to 70 degC, 16-pin SOIC (D), Green (RoHS & no Sb/Br); PartNumber: BQ2050HSN-A508TR; Manufacturer: Texas Instruments; Lead Acid: N; Li-Ion: Y; SubFamily: Battery Fuel Gauge; DatasheetVersion: SLUS150; PackageVersion: revM, Jun-2011; PackageReference: D16; PackageDescription: 16-Pin Plastic Small Outline Integrated Circuit, 9.9 x 3.9 mm, Pitch 1.27 mm Pitch; Supplier 1: Digi-Key; Supplier Part Number 1: BQ2050HSN-A508TR-ND; Supplier 2: Newark; Supplier Part Number 2: 74C7577; Supplier 3: Mouser; Supplier Part Number 3: 595-BQ2050HSN-A508TR; Eco-Plan: Green (RoHS & no Sb/Br); Li-Polymer: N; NiCd: N; NiMH: N; Over Voltage Protection: N; Mounting Technology: Surface Mount; Code_JEDEC: MS-012AC; ComponentLink1Description: Datasheet; ComponentLink1URL: http://www.ti.com/general/docs/lit/getliterature.tsp?genericPartNumber=BQ2050H&fileType=pdf
footprint D16_N (SOIC, 16-Leads, Body 9.9x3.9mm, Pitch 1.27mm, IPC Medium Density)
footprint D16_L (SOIC, 16-Leads, Body 9.9x3.9mm, Pitch 1.27mm, IPC High Density)
footprint D16_M (SOIC, 16-Leads, Body 9.9x3.9mm, Pitch 1.27mm, IPC Low Density)
pins: 1 LCOM (hiz) "This open-drain output switches VCC to source current for the LEDs. The switch is off during initialization to allow reading of the soft pull-up or pull-down program resistors.LCOM is also high impedance when the display is (See Datasheet)", 2 SEG1/PROG1 (io) "Each output may activate an LED to sink the current sourced from LCOM./These three-level input pins define the programmed full count (PFC) thresholds described in Table 2.", 3 SEG2/PROG2 (io) "Each output may activate an LED to sink the current sourced from LCOM./These three-level input pins define the programmed full count (PFC) thresholds described in Table 2.", 4 SEG3/PROG3 (io) "Each output may activate an LED to sink the current sourced from LCOM./These three-level input pins define the scale factor described in Table 2.", 5 SEG4/PROG4 (io) "Each output may activate an LED to sink the current sourced from LCOM./These three-level input pins define the scale factor described in Table 2.", 6 SEG5/PROG5 (io) "Each output may activate an LED to sink the current sourced from LCOM./This three-level input pin defines the selfdischarge and battery compensation factors as shown in Table 1.", 7 CFC "This pin can be used as an additional control to the charge FET of the Li-Ion pack protection circuitry.", 8 VSS (power) "Ground", 9 SR (in) "The voltage drop (VSR) across the sense resistor RS is monitored and integrated over time to interpret charge and discharge activity.The SR input is tied between the negative terminal of the battery and the sense resistor.(See Datasheet)", 10 ~{DISP} "D\I\S\P\ high disables the LED display.D\I\S\P\ tied to VCC allows PROGX to connect directly to VCC or VSS instead of through a pull-up or pull-down resistor. DISP floating allows the LED display to be active during charge.(See Datasheet)", 11 SB (in) "This input monitors the battery cell voltage potential through a high-impedance resistive divider network for end-of-discharge voltage (EDV) thresholds and battery-removed detection.", 12 RBI (power) "This pin is used to provide backup potential to the bq2050 registers during periods when VCC =< 3V. A storage capacitor or a battery can be connected to RBI.", 13 HDQ (io) "This is the open-drain bidirectional communications port.", 14 PSTAT (in) "This input provides overvoltage status from the Li-Ion protector circuit. It should connect to VSS when not used.", 15 REF (out) "REF provides a voltage reference output for an optional micro-regulator.", 16 VCC (power) "Supply voltage input"

## BQ2050HSN-A508TRG4
designator U?
Li-Ion Gas Gauge with High-Speed 1-Wire (HDQ) Interface and 5 LED Drivers, 0 to 70 degC, 16-pin SOIC (D), Green (RoHS & no Sb/Br); PartNumber: BQ2050HSN-A508TRG4; Manufacturer: Texas Instruments; Lead Acid: N; Li-Ion: Y; SubFamily: Battery Fuel Gauge; DatasheetVersion: SLUS150; PackageVersion: revM, Jun-2011; PackageReference: D16; PackageDescription: 16-Pin Plastic Small Outline Integrated Circuit, 9.9 x 3.9 mm, Pitch 1.27 mm Pitch; Supplier 1: Digi-Key; Supplier Part Number 1: BQ2050HSN-A508TRG4-ND; Supplier 2: Newark; Supplier Part Number 2: 58K5574; Supplier 3: Mouser; Supplier Part Number 3: 595-BQ2050HSA508TRG4; Eco-Plan: Green (RoHS & no Sb/Br); Li-Polymer: N; NiCd: N; NiMH: N; Over Voltage Protection: N; Mounting Technology: Surface Mount; Code_JEDEC: MS-012AC; ComponentLink1Description: Datasheet; ComponentLink1URL: http://www.ti.com/general/docs/lit/getliterature.tsp?genericPartNumber=BQ2050H&fileType=pdf
footprint D16_N (SOIC, 16-Leads, Body 9.9x3.9mm, Pitch 1.27mm, IPC Medium Density)
footprint D16_L (SOIC, 16-Leads, Body 9.9x3.9mm, Pitch 1.27mm, IPC High Density)
footprint D16_M (SOIC, 16-Leads, Body 9.9x3.9mm, Pitch 1.27mm, IPC Low Density)
pins: 1 LCOM (hiz) "This open-drain output switches VCC to source current for the LEDs. The switch is off during initialization to allow reading of the soft pull-up or pull-down program resistors.LCOM is also high impedance when the display is (See Datasheet)", 2 SEG1/PROG1 (io) "Each output may activate an LED to sink the current sourced from LCOM./These three-level input pins define the programmed full count (PFC) thresholds described in Table 2.", 3 SEG2/PROG2 (io) "Each output may activate an LED to sink the current sourced from LCOM./These three-level input pins define the programmed full count (PFC) thresholds described in Table 2.", 4 SEG3/PROG3 (io) "Each output may activate an LED to sink the current sourced from LCOM./These three-level input pins define the scale factor described in Table 2.", 5 SEG4/PROG4 (io) "Each output may activate an LED to sink the current sourced from LCOM./These three-level input pins define the scale factor described in Table 2.", 6 SEG5/PROG5 (io) "Each output may activate an LED to sink the current sourced from LCOM./This three-level input pin defines the selfdischarge and battery compensation factors as shown in Table 1.", 7 CFC "This pin can be used as an additional control to the charge FET of the Li-Ion pack protection circuitry.", 8 VSS (power) "Ground", 9 SR (in) "The voltage drop (VSR) across the sense resistor RS is monitored and integrated over time to interpret charge and discharge activity.The SR input is tied between the negative terminal of the battery and the sense resistor.(See Datasheet)", 10 ~{DISP} "D\I\S\P\ high disables the LED display.D\I\S\P\ tied to VCC allows PROGX to connect directly to VCC or VSS instead of through a pull-up or pull-down resistor. DISP floating allows the LED display to be active during charge.(See Datasheet)", 11 SB (in) "This input monitors the battery cell voltage potential through a high-impedance resistive divider network for end-of-discharge voltage (EDV) thresholds and battery-removed detection.", 12 RBI (power) "This pin is used to provide backup potential to the bq2050 registers during periods when VCC =< 3V. A storage capacitor or a battery can be connected to RBI.", 13 HDQ (io) "This is the open-drain bidirectional communications port.", 14 PSTAT (in) "This input provides overvoltage status from the Li-Ion protector circuit. It should connect to VSS when not used.", 15 REF (out) "REF provides a voltage reference output for an optional micro-regulator.", 16 VCC (power) "Supply voltage input"